# EAGLE library part BBHD (library logic-supply)
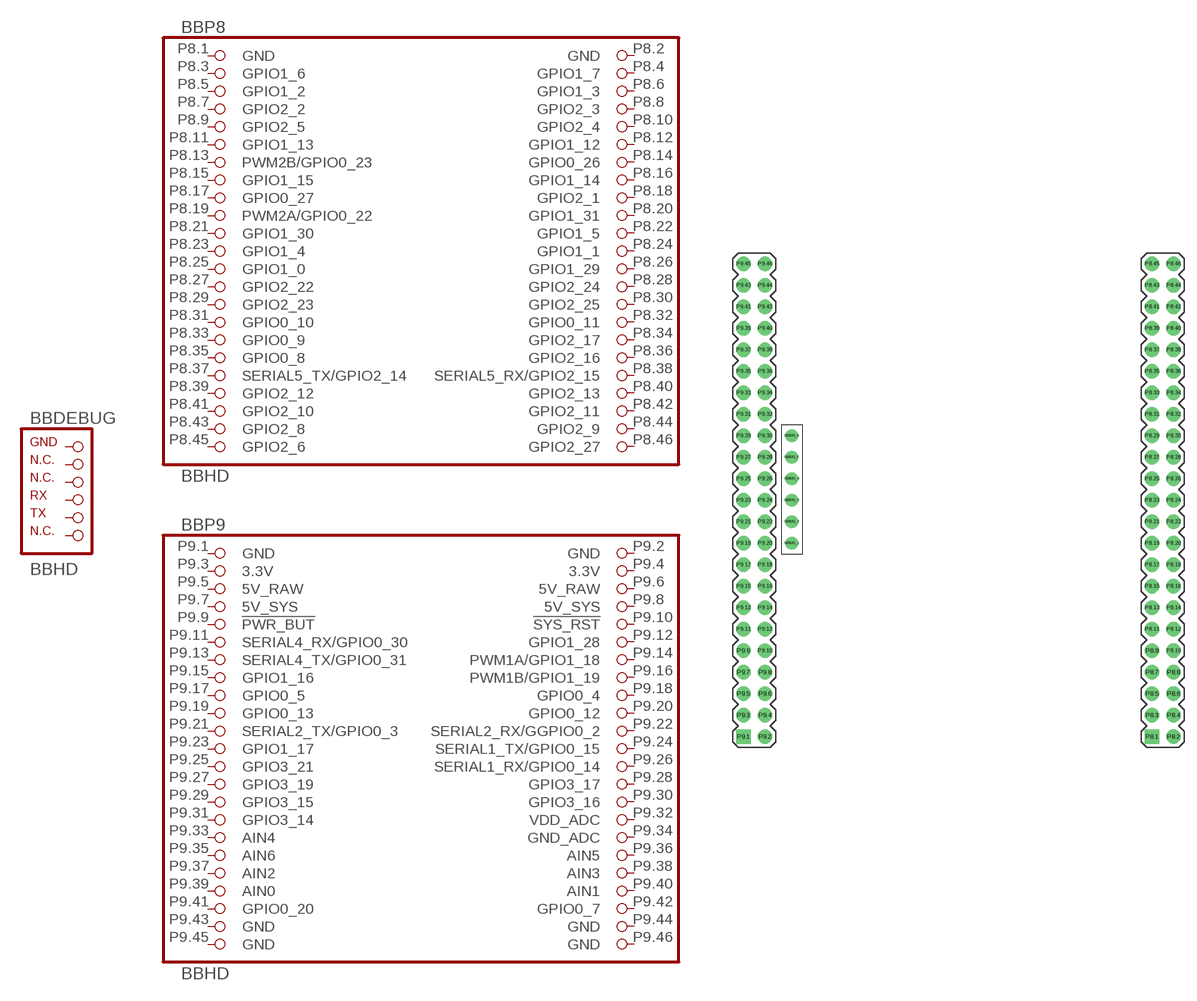
[diagram p21: symbol with the pads of BB_CAPE_DEBUG_TOP; footprint BB_CAPE_DEBUG_TOP]

Designator prefix BB; gates P8=BBH_P8 P9=BBH_P9 DEBUG=BB_DEBUG

## BBHD1  [BB_CAPE_DEBUG_TOP]
DEBUG_1  DEBUG:GND  pwr
DEBUG_2  DEBUG:2  nc
DEBUG_3  DEBUG:3  nc
DEBUG_4  DEBUG:RX  in
DEBUG_5  DEBUG:TX  out
DEBUG_6  DEBUG:6  nc
P8.1  P8:GND  pwr
P8.2  P8:GND  pwr
P8.3  P8:GPIO1_6
P8.4  P8:GPIO1_7
P8.5  P8:GPIO1_2
P8.6  P8:GPIO1_3
P8.7  P8:GPIO2_2
P8.8  P8:GPIO2_3
P8.9  P8:GPIO2_5
P8.10  P8:GPIO2_4
P8.11  P8:GPIO1_13
P8.12  P8:GPIO1_12
P8.13  P8:PWM2B/GPIO0_23
P8.14  P8:GPIO0_26
P8.15  P8:GPIO1_15
P8.16  P8:GPIO1_14
P8.17  P8:GPIO0_27
P8.18  P8:GPIO2_1
P8.19  P8:PWM2A/GPIO0_22
P8.20  P8:GPIO1_31
P8.21  P8:GPIO1_30
P8.22  P8:GPIO1_5
P8.23  P8:GPIO1_4
P8.24  P8:GPIO1_1
P8.25  P8:GPIO1_0
P8.26  P8:GPIO1_29
P8.27  P8:GPIO2_22
P8.28  P8:GPIO2_24
P8.29  P8:GPIO2_23
P8.30  P8:GPIO2_25
P8.31  P8:GPIO0_10
P8.32  P8:GPIO0_11
P8.33  P8:GPIO0_9
P8.34  P8:GPIO2_17
P8.35  P8:GPIO0_8
P8.36  P8:GPIO2_16
P8.37  P8:SERIAL5_TX/GPIO2_14
P8.38  P8:SERIAL5_RX/GPIO2_15
P8.39  P8:GPIO2_12
P8.40  P8:GPIO2_13
P8.41  P8:GPIO2_10
P8.42  P8:GPIO2_11
P8.43  P8:GPIO2_8
P8.44  P8:GPIO2_9
P8.45  P8:GPIO2_6
P8.46  P8:GPIO2_27
P9.1  P9:GND  pwr
P9.2  P9:GND  pwr
P9.3  P9:3.3V  pwr
P9.4  P9:3.3V  pwr
P9.5  P9:5V_RAW  pwr
P9.6  P9:5V_RAW  pwr
P9.7  P9:5V_SYS  pwr
P9.8  P9:5V_SYS  pwr
P9.9  P9:!PWR_BUT  in
P9.10  P9:!SYS_RST  in
P9.11  P9:SERIAL4_RX/GPIO0_30
P9.12  P9:GPIO1_28
P9.13  P9:SERIAL4_TX/GPIO0_31
P9.14  P9:PWM1A/GPIO1_18
P9.15  P9:GPIO1_16
P9.16  P9:PWM1B/GPIO1_19
P9.17  P9:GPIO0_5
P9.18  P9:GPIO0_4
P9.19  P9:GPIO0_13
P9.20  P9:GPIO0_12
P9.21  P9:SERIAL2_TX/GPIO0_3
P9.22  P9:SERIAL2_RX/GGPIO0_2
P9.23  P9:GPIO1_17
P9.24  P9:SERIAL1_TX/GPIO0_15
P9.25  P9:GPIO3_21
P9.26  P9:SERIAL1_RX/GPIO0_14
P9.27  P9:GPIO3_19
P9.28  P9:GPIO3_17
P9.29  P9:GPIO3_15
P9.30  P9:GPIO3_16
P9.31  P9:GPIO3_14
P9.32  P9:VDD_ADC
P9.33  P9:AIN4  in
P9.34  P9:GND_ADC
P9.35  P9:AIN6  in
P9.36  P9:AIN5  in
P9.37  P9:AIN2  in
P9.38  P9:AIN3  in
P9.39  P9:AIN0  in
P9.40  P9:AIN1  in
P9.41  P9:GPIO0_20
P9.42  P9:GPIO0_7
P9.43  P9:GND
P9.44  P9:GND
P9.45  P9:GND
P9.46  P9:GND

## Footprint BB_CAPE_DEBUG_TOP (pad centres in mm)
drill 1.016: DEBUG_1 7.62,41.91; DEBUG_2 7.62,44.45; DEBUG_3 7.62,46.99; DEBUG_4 7.62,49.53; DEBUG_5 7.62,52.07; DEBUG_6 7.62,54.61
drill 1 pad 1.676 square: P8.1 50.165,19.05; P9.1 1.905,19.05
drill 1 pad 1.676: P8.2 52.705,19.05; P8.3 50.165,21.59; P8.4 52.705,21.59; P8.5 50.165,24.13; P8.6 52.705,24.13; P8.7 50.165,26.67; P8.8 52.705,26.67; P8.9 50.165,29.21; P8.10 52.705,29.21; P8.11 50.165,31.75; P8.12 52.705,31.75; P8.13 50.165,34.29; P8.14 52.705,34.29; P8.15 50.165,36.83; P8.16 52.705,36.83; P8.17 50.165,39.37; P8.18 52.705,39.37; P8.19 50.165,41.91; P8.20 52.705,41.91; P8.21 50.165,44.45; P8.22 52.705,44.45; P8.23 50.165,46.99; P8.24 52.705,46.99; P8.25 50.165,49.53; P8.26 52.705,49.53; P8.27 50.165,52.07; P8.28 52.705,52.07; P8.29 50.165,54.61; P8.30 52.705,54.61; P8.31 50.165,57.15; P8.32 52.705,57.15; P8.33 50.165,59.69; P8.34 52.705,59.69; P8.35 50.165,62.23; P8.36 52.705,62.23; P8.37 50.165,64.77; P8.38 52.705,64.77; P8.39 50.165,67.31; P8.40 52.705,67.31; P8.41 50.165,69.85; P8.42 52.705,69.85; P8.43 50.165,72.39; P8.44 52.705,72.39; P8.45 50.165,74.93; P8.46 52.705,74.93; P9.2 4.445,19.05; P9.3 1.905,21.59; P9.4 4.445,21.59; P9.5 1.905,24.13; P9.6 4.445,24.13; P9.7 1.905,26.67; P9.8 4.445,26.67; P9.9 1.905,29.21; P9.10 4.445,29.21; P9.11 1.905,31.75; P9.12 4.445,31.75; P9.13 1.905,34.29; P9.14 4.445,34.29; P9.15 1.905,36.83; P9.16 4.445,36.83; P9.17 1.905,39.37; P9.18 4.445,39.37; P9.19 1.905,41.91; P9.20 4.445,41.91; P9.21 1.905,44.45; P9.22 4.445,44.45; P9.23 1.905,46.99; P9.24 4.445,46.99; P9.25 1.905,49.53; P9.26 4.445,49.53; P9.27 1.905,52.07; P9.28 4.445,52.07; P9.29 1.905,54.61; P9.30 4.445,54.61; P9.31 1.905,57.15; P9.32 4.445,57.15; P9.33 1.905,59.69; P9.34 4.445,59.69; P9.35 1.905,62.23; P9.36 4.445,62.23; P9.37 1.905,64.77; P9.38 4.445,64.77; P9.39 1.905,67.31; P9.40 4.445,67.31; P9.41 1.905,69.85; P9.42 4.445,69.85; P9.43 1.905,72.39; P9.44 4.445,72.39; P9.45 1.905,74.93; P9.46 4.445,74.93